# Altium schematic symbol library Slib.SchLib: 7 symbols
Pins are listed as number, name and electrical type; pins without a type are passive.

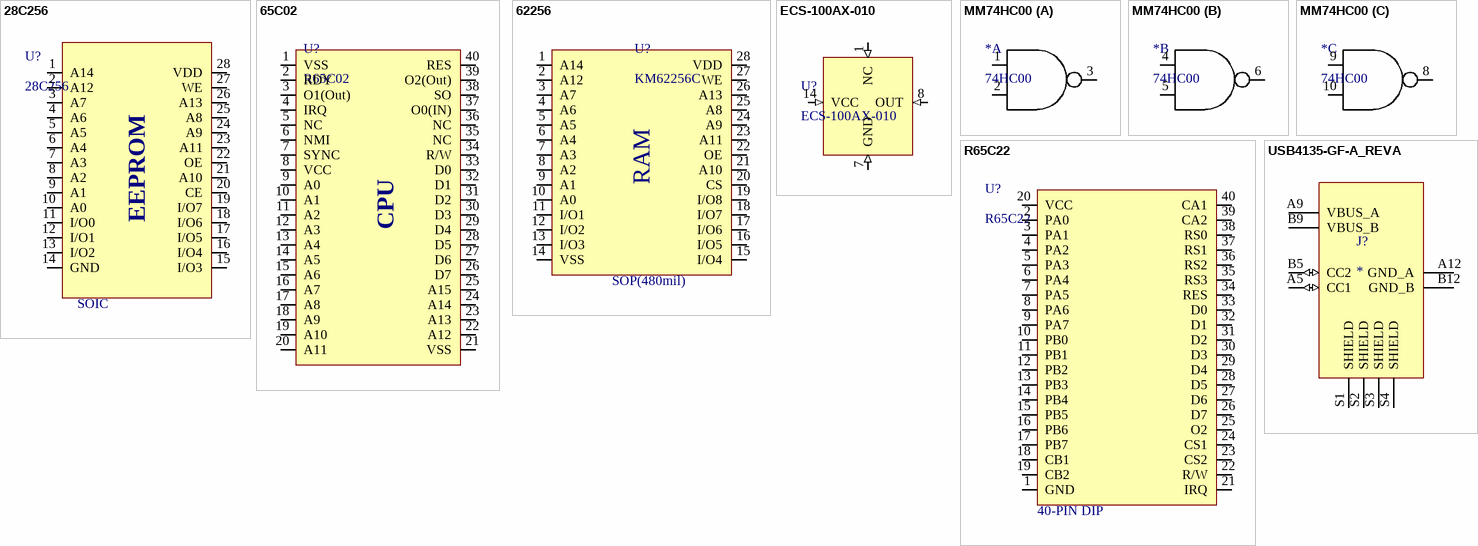
[diagram p0: symbols 28C256 to USB4135-GF-A_REVA]

## 28C256
designator U?  Package: SOIC
EEPROM memory; 32kx8bit; 4.5÷5.5V; DIP28; parallel; Datasheet: https://ww1.microchip.com/downloads/en/DeviceDoc/doc0006.pdf
footprint SOIC127P1030X255-28N (SOIC, 28-Leads, Body 17.90x7.50mm, Pitch 1.27mm, IPC Medium Density)
pins: 1 A14, 2 A12, 3 A7, 4 A6, 5 A5, 6 A4, 7 A3, 8 A2, 9 A1, 10 A0, 11 I/O0, 12 I/O1, 13 I/O2, 14 GND, 15 I/O3 (oe), 16 I/O4 (oe), 17 I/O5 (oe), 18 I/O6 (oe), 19 I/O7 (oe), 20 CE (oe), 21 A10 (oe), 22 OE (oe), 23 A11 (oe), 24 A9 (oe), 25 A8 (oe), 26 A13 (oe), 27 WE (oe), 28 VDD (oe)
text: EEPROM

## 65C02
designator U?, comment R65C02
R65C02 family, 5V input, CPU; Datasheet: https://www.westerndesigncenter.com/wdc/documentation/w65c02s.pdf
footprint SOJ254P1520X356-40N (SOJ, 40-Leads, Body 52.00x15.17mm, Pitch 2.54mm, IPC Medium Density)
pins: 1 VSS, 2 RDY, 3 O1(Out), 4 IRQ, 5 NC, 6 NMI, 7 SYNC, 8 VCC, 9 A0, 10 A1, 11 A2, 12 A3, 13 A4, 14 A5, 15 A6, 16 A7, 17 A8, 18 A9, 19 A10, 20 A11, 21 VSS, 22 A12, 23 A13, 24 A14, 25 A15, 26 D7, 27 D6, 28 D5, 29 D4, 30 D3, 31 D2, 32 D1, 33 D0, 34 R/W, 35 NC, 36 NC, 37 O0(IN), 38 SO, 39 O2(Out), 40 RES
text: CPU

## 62256
designator U?, comment KM62256C  Package: SOP(480mil)
32Kx8 bit Low Power CMOS Static RAM; Datasheet: https://www.futurlec.com/Memory/62256.shtml
footprint SOP127P1200X279-28N (SOP, 28-Leads, Body 18.49x8.48mm, Pitch 1.27mm, IPC Medium Density)
pins: 1 A14, 2 A12, 3 A7, 4 A6, 5 A5, 6 A4, 7 A3, 8 A2, 9 A1, 10 A0, 11 I/O1, 12 I/O2, 13 I/O3, 14 VSS, 15 I/O4, 16 I/O5, 17 I/O6, 18 I/O7, 19 I/O8, 20 CS, 21 A10, 22 OE, 23 A11, 24 A9, 25 A8, 26 A13, 27 WE, 28 VDD
text: RAM

## ECS-100AX-010
designator U?
Standard Clock Oscillators DIP-14 5V 1MHz; Datasheet: https://www.mouser.pl/datasheet/2/122/ecs-100x-4889.pdf
footprint Oscillator (Crystal Oscillator Clock 1MHZ)
pins: 1 NC (in), 7 GND (in), 8 OUT (in), 14 VCC (in)

## MM74HC00
designator *, comment 74HC00
Quad 2-Input NAND Gate; Datasheet: https://eater.net/datasheets/74hc00.pdf
footprint SOIC127P600X155-14N (SOIC, 14-Leads, Body 8.62x3.90mm, Pitch 1.27mm, IPC Medium Density)
part A pins: 1 A1, 2 B1, 3 Y2
part B pins: 4 A1, 5 B1, 6 Y2
part C pins: 8 Y2, 9 A1, 10 B1

## R65C22
designator U?  Package: 40-PIN DIP
8-bit I/O control device; Datasheet: https://datasheetspdf.com/pdf-file/502243/Rockwell/R65C22/1
footprint SOJ254P1520X356-40N (SOJ, 40-Leads, Body 52.00x15.17mm, Pitch 2.54mm, IPC Medium Density)
pins: 1 GND, 2 PA0, 3 PA1, 4 PA2, 5 PA3, 6 PA4, 7 PA5, 8 PA6, 9 PA7, 10 PB0, 11 PB1, 12 PB2, 13 PB3, 14 PB4, 15 PB5, 16 PB6, 17 PB7, 18 CB1, 19 CB2, 20 VCC, 21 IRQ, 22 R/W, 23 CS2, 24 CS1, 25 O2, 26 D7, 27 D6, 28 D5, 29 D4, 30 D3, 31 D2, 32 D1, 33 D0, 34 RES, 35 RS3, 36 RS2, 37 RS1, 38 RS0, 39 CA2, 40 CA1

## USB4135-GF-A_REVA
designator J?
Type C Receptacle, Horizontal, SMT, For Power Charging Only; MP: USB4135-GF-A; MF: Global Connector Technology; SnapEDA_Link: https://www.snapeda.com/parts/USB4135-GF-A/Global+Connector+Technology/view-part/?ref=snap; Check_prices: https://www.snapeda.com/parts/USB4135-GF-A/Global+Connector+Technology/view-part/?ref=eda; Price: None; Value: *; Purchase-URL: https://pricing.snapeda.com/search/part/USB4135-GF-A/?ref=eda; Availability: In Stock; Package: None
footprint GCT_USB4135-GF-A_REVA
pins: A5 CC1 (io), A9 VBUS_A (power), A12 GND_A (power), B5 CC2 (io), B9 VBUS_B (power), B12 GND_B (power), S1 SHIELD, S2 SHIELD, S3 SHIELD, S4 SHIELD